# EAGLE library part 750344050 (library Wurth_Power Magnetics_WE-FLYTI)
WE-FLYTI Flyback Transformers Characteristics Low leakage inductance Multiple package sizes Wide range input voltages Different output voltages available Isolation voltage: up to 3000VAC Lead free and RoHS compliant Operating temp: -40°C to 125°C Applications Industrial and medical power supplies Auxiliary power supplies Home automation Isolated DC/DC power supplies <https://www.we-online.com/components/media/o795300v209%20FAMILY-MID-FLYTI.jpg> Details see: www.we-online.com/en/components/products/WE-FLYTI <www.we-online.com/catalog/WE-FLYTI/?utm_source=eagle_model&utm_medium=description_link&utm_campaign=eisos_eagle> Created by Ella Wu 2024-07-03 2024 (C) Wurth Elektronik
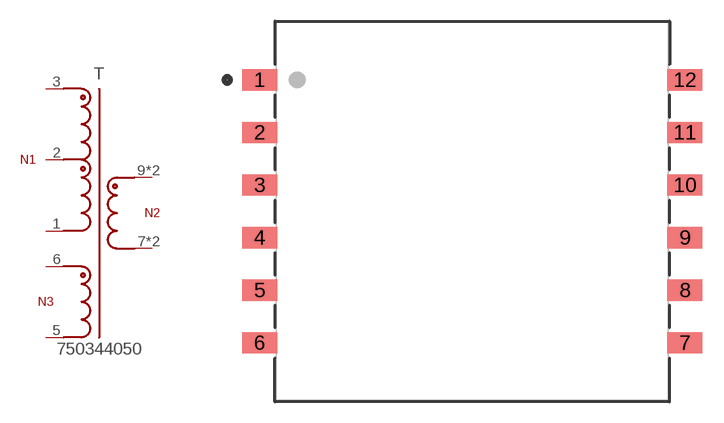
[diagram p1: symbol with the pads of WE-FLYTI_EFD25_4476; footprint WE-FLYTI_EFD25_4476]

Designator prefix T

## 750344050 (DATASHEET-URL: https://www.we-online.com/redexpert/spec/750344050?ae; IOUT1: 2000mA; ISAT: 7.95A; L: 65uH; LS: 1000nH; MOUNT: SMT; N: 1.85:1:0.54; PART-NUMBER: 750344050; SIZE: EFD25; VALUE: 750344050; VAUX: 13V; VIN: 40 - 180 V (DC); VOUT1: 24V; VT: 2000V(AC))  [WE-FLYTI_EFD25_4476]
1  1  pas
2  2  pas
3  3  pas
5  5  pas
6  6  pas
7  7+8  pas
8  7+8  pas
9  9+10  pas
10  9+10  pas

## Footprint WE-FLYTI_EFD25_4476 (pad centres in mm)
WE-FLYTI Flyback Transformers Size:EFD25,SMT,12pins Bobbin: 070-4476
smd 2.5 x 1.52: 1 -15.19,9.4; 2 -15.19,5.64; 3 -15.19,1.88; 4 -15.19,-1.88; 5 -15.19,-5.64; 6 -15.19,-9.4; 7 15.19,-9.4; 8 15.19,-5.64; 9 15.19,-1.88; 10 15.19,1.88; 11 15.19,5.64; 12 15.19,9.4